# Altium schematic symbol library 电阻.SCHLIB: 5 symbols
Pins are listed as number, name and electrical type; pins without a type are passive.

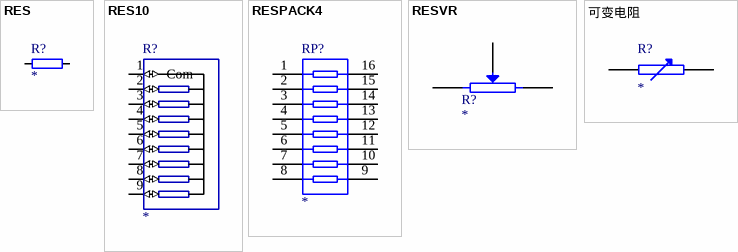
[diagram p0: symbols RES to 可变电阻]

## RES
designator R?
footprint AXIAL0.3
footprint AXIAL0.4
footprint AXIAL0.5
pins: 1, 2

## RES10
designator R?
footprint SIP9
pins: 1 Com (io), 2 (io), 3 (io), 4 (io), 5 (io), 6 (io), 7 (io), 8 (io), 9 (io)

## RESPACK4
designator RP?
footprint DIP16
pins: 1, 2, 3, 4, 5, 6, 7, 8, 9, 10, 11, 12, 13, 14, 15, 16

## RESVR
designator R?
Potentiometer
footprint VR
pins: 1, 2, 3 W

## 可变电阻
designator R?
pins: 1, 2